# EAGLE library part USR-TCP232-T2 (library ali_modules)
Ethernet to UART converter
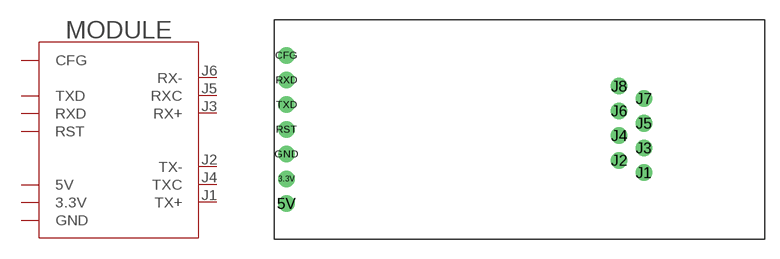
[diagram p22: symbol with the pads of USR-TCP232-T2; footprint USR-TCP232-T2]

Designator prefix MODULE

## USR-TCP232-T2 (MANF: Waveshare; MANF#: USR-TCP232-T2)  [USR-TCP232-T2]
3.3V  3.3V
5V  5V
CFG  CFG
GND  GND
J1  TX+
J2  TX-
J3  RX+
J4  TXC
J5  RXC
J6  RX-
RST  RST
RXD  RXD
TXD  TXD

## Footprint USR-TCP232-T2 (pad centres in mm)
description <https://www.waveshare.com/product/iot-communication/wired-comm-converter/uart-to-eth.htm>
drill 1 pad 1.7: 3.3V -23.98,-5.08; 5V -23.98,-7.62; CFG -23.98,7.62; GND -23.98,-2.54; J1 12.79,-4.445; J2 10.25,-3.175; J3 12.79,-1.905; J4 10.25,-0.635; J5 12.79,0.635; J6 10.25,1.905; J7 12.79,3.175; J8 10.25,4.445; RST -23.98,0; RXD -23.98,5.08; TXD -23.98,2.54